# Altium schematic symbol library TI_ADS7867.SchLib: 1 symbol
Pins are listed as number, name and electrical type; pins without a type are passive.

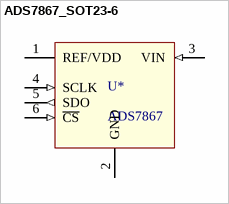
[diagram p0: symbol ADS7867_SOT23-6]

## ADS7867_SOT23-6
designator U*, comment ADS7867
ADC 10BIT 240KSPS SOT23-6; Supplier 1: Digi-Key; Supplier Part Number 1: 296-18217-1-ND
footprint SOT95P280X145-6N (SOT23, 6-Leads, Body 2.90x2.80mm, Pitch 0.95mm, IPC Medium Density)
pins: 1 REF/VDD (power), 2 GND (power), 3 VIN (in), 4 SCLK (in), 5 SDO (out), 6 ~{CS} (in)